# EAGLE library part MCP23008 (library Microchip)
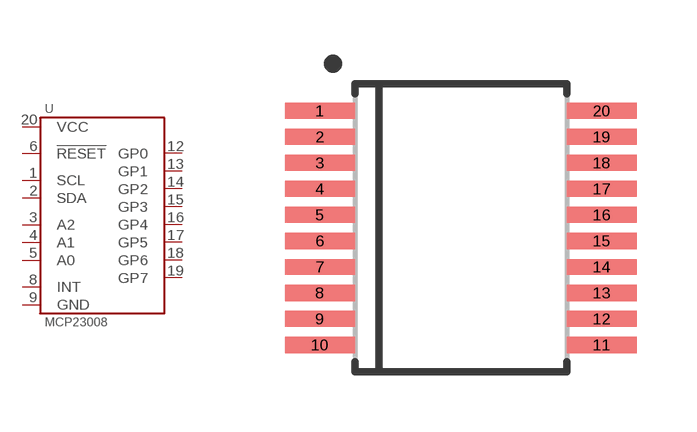
[diagram p17: symbol with the pads of SSOP-20; footprint SSOP-20]

Designator prefix U

## MCP23008T-E-SS  [SSOP-20]
1  SCL
2  SDA
3  A2
4  A1
5  A0
6  !RESET
8  INT
9  GND
12  GP0
13  GP1
14  GP2
15  GP3
16  GP4
17  GP5
18  GP6
19  GP7
20  VCC

## Footprint SSOP-20 (pad centres in mm)
smd 1.75 x 0.4: 1 -3.525,2.925; 2 -3.525,2.275; 3 -3.525,1.625; 4 -3.525,0.975; 5 -3.525,0.325; 6 -3.525,-0.325; 7 -3.525,-0.975; 8 -3.525,-1.625; 9 -3.525,-2.275; 10 -3.525,-2.925; 11 3.525,-2.925; 12 3.525,-2.275; 13 3.525,-1.625; 14 3.525,-0.975; 15 3.525,-0.325; 16 3.525,0.325; 17 3.525,0.975; 18 3.525,1.625; 19 3.525,2.275; 20 3.525,2.925